# Altium footprint library HRP5.PcbLib: 1 footprints
Each footprint in its own frame and in the unit in brackets; x right, y up, seen from the top. Pads: shape width x height; smd on the part's side, far side on the other; paste and mask are expansions set on the pad; w line width, h text height; cw(c..) or ccw(c..) is an arc to the next point about the centre after c.
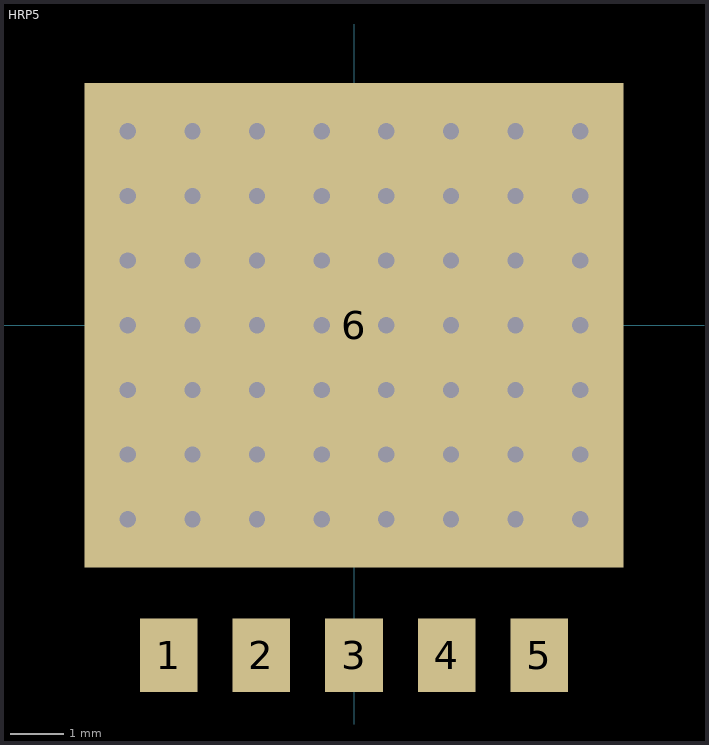
[diagram p0: the footprint, top view; thin cyan lines are the x and y axes]

## HRP5 [mm]
pads (62):
  rect 1.07x1.37 smd: 1(-3.44,-6.125) 2(-1.72,-6.125) 3(0,-6.125) 4(1.72,-6.125) 5(3.44,-6.125)
  rect 10x9 all layers, no hole: 6(0,0)
  round 0.3 hole 0.3: hole(-4.2,-3.6) hole(-4.2,-2.4) hole(-4.2,-1.2) hole(-4.2,0) hole(-4.2,1.2) hole(-4.2,2.4) hole(-4.2,3.6) hole(-3,-3.6) hole(-3,-2.4) hole(-3,-1.2) hole(-3,0) hole(-3,1.2) hole(-3,2.4) hole(-3,3.6) hole(-1.8,-3.6) hole(-1.8,-2.4) hole(-1.8,-1.2) hole(-1.8,0) hole(-1.8,1.2) hole(-1.8,2.4) hole(-1.8,3.6) hole(-0.6,-3.6) hole(-0.6,-2.4) hole(-0.6,-1.2) hole(-0.6,0) hole(-0.6,1.2) hole(-0.6,2.4) hole(-0.6,3.6) hole(0.6,-3.6) hole(0.6,-2.4) hole(0.6,-1.2) hole(0.6,0) hole(0.6,1.2) hole(0.6,2.4) hole(0.6,3.6) hole(1.8,-3.6) hole(1.8,-2.4) hole(1.8,-1.2) hole(1.8,0) hole(1.8,1.2) hole(1.8,2.4) hole(1.8,3.6) hole(3,-3.6) hole(3,-2.4) hole(3,-1.2) hole(3,0) hole(3,1.2) hole(3,2.4) hole(3,3.6) hole(4.2,-3.6) hole(4.2,-2.4) hole(4.2,-1.2) hole(4.2,0) hole(4.2,1.2) hole(4.2,2.4) hole(4.2,3.6)
3D body: height 1.9, standoff 0, extent -4.753,-4.445 4.699,4.445